# Altium schematic symbol library Zener.SchLib: 4 symbols
Pins are listed as number, name and electrical type; pins without a type are passive.

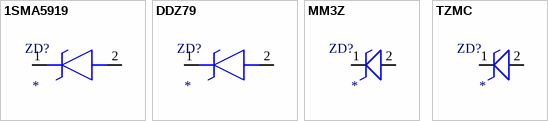
[diagram p0: symbols 1SMA5919 to TZMC]

## 1SMA5919
designator ZD?
DIODE ZENER 1.5W SMA; Manufacturer 1: onsemi; Manufacturer Part Number 1: *; Value: *
footprint 1SMA5919 (DIODE ZENER 1.5W SMA)
pins: 1 K, 2 A

## DDZ79
designator ZD?
DIODE ZENER 500MW SOD123; Manufacturer 1: Diodes Incorporated; Manufacturer Part Number 1: *; Value: *
footprint DDZ79
pins: 1 K, 2 A

## MM3Z
designator ZD?
Zener SOD-323 0.3W; Manufacturer 1: *; Manufacturer Part Number 1: *; Supplier 1: *; Supplier Part Number 1: *; Value: *
footprint SOD323 (SOD-323)
pins: 1 K, 2 A

## TZMC
designator ZD?
MiniMELF (SOD-80) 500mW Zener; Manufacturer 1: *; Manufacturer Part Number 1: *; Supplier 1: *; Supplier Part Number 1: *; Value: *
footprint DIOMELF3515M (MELF Diode, 2-Leads, Body 3.50x1.50mm, IPC Low Density)
pins: 1 K, 2 A